# Altium schematic symbol library Z80 Card for Commodore C64.SCHLIB: 14 symbols
Pins are listed as number, name and electrical type; pins without a type are passive.

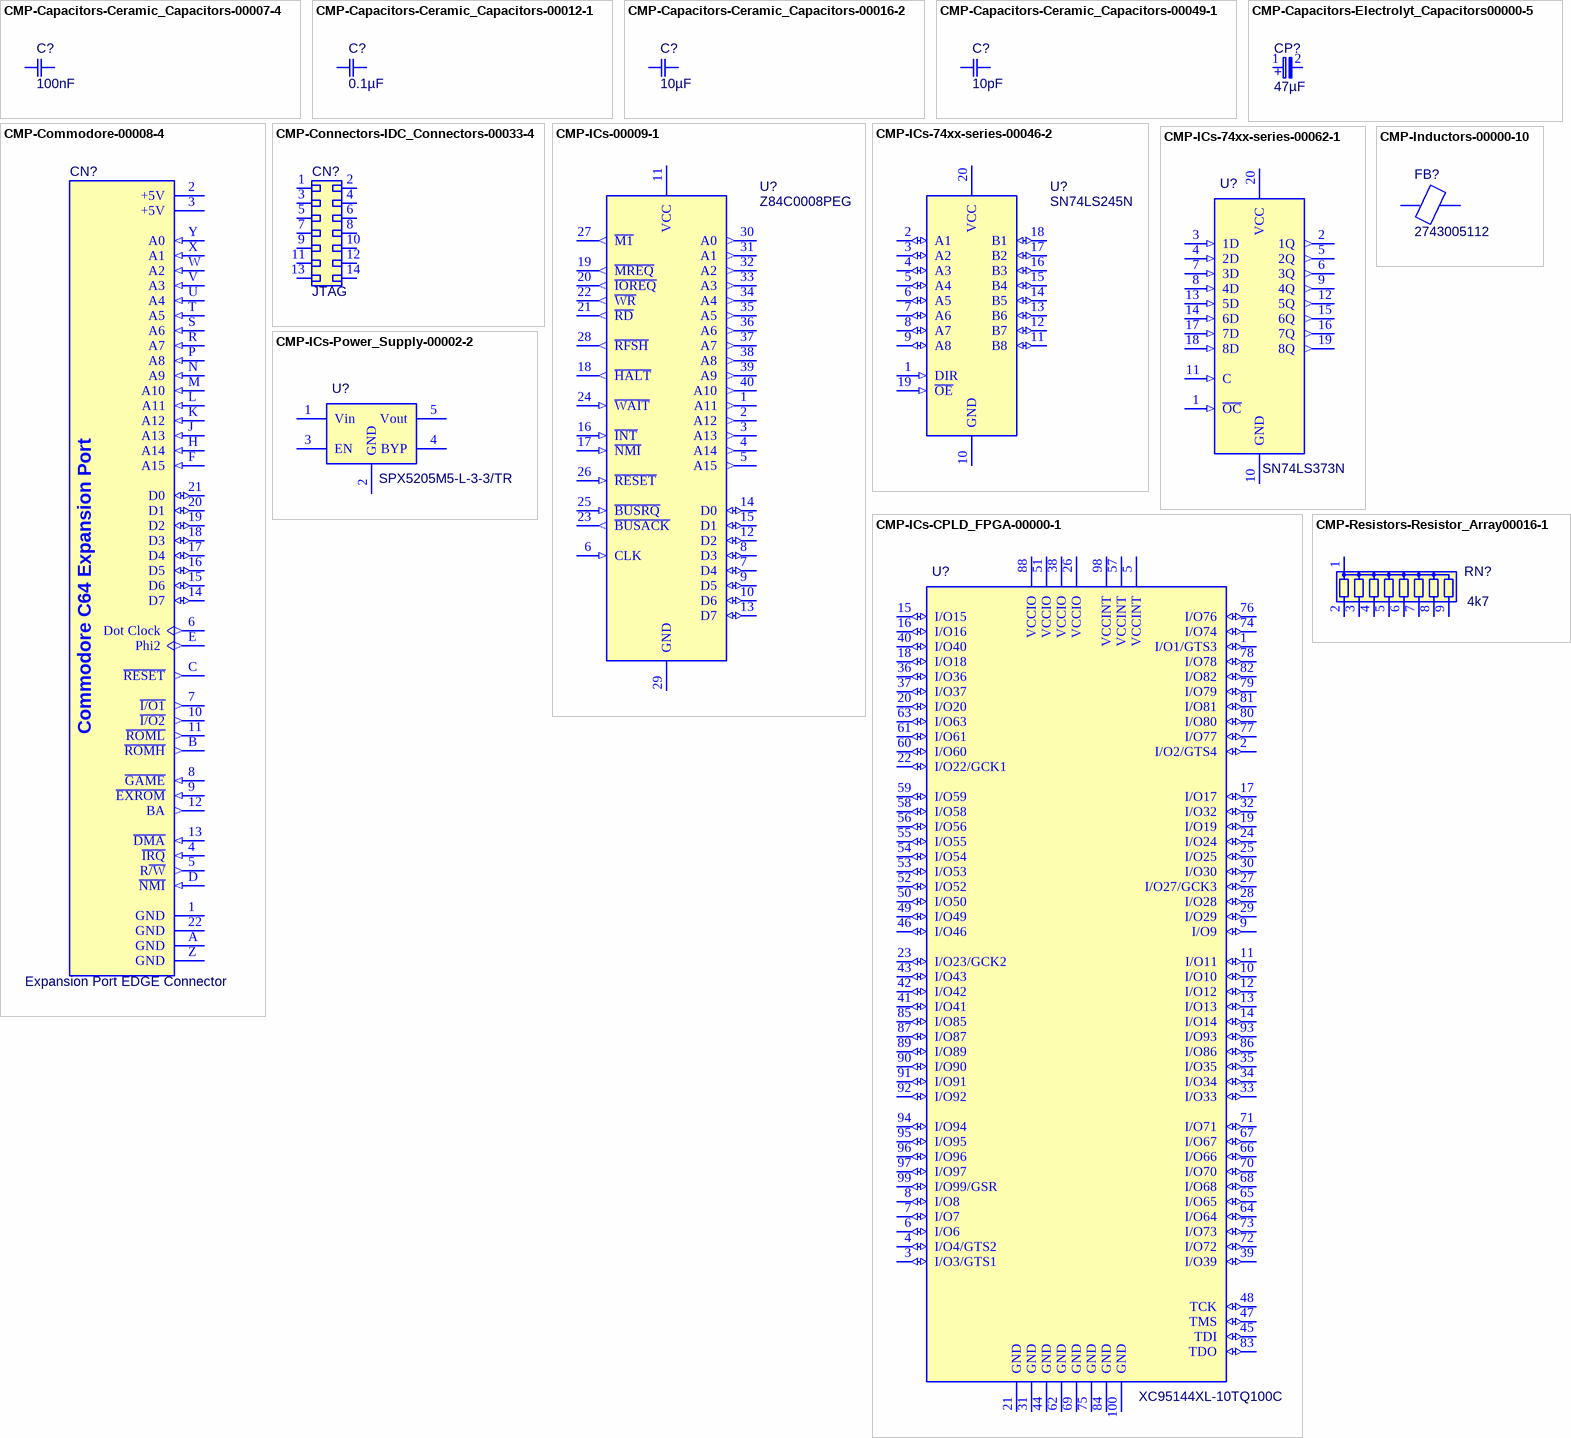
[diagram p0: symbols CMP-Capacitors-Ceramic_Capacitors-00007-4 to CMP-Resistors-Resistor_Array00016-1]

## CMP-Capacitors-Ceramic_Capacitors-00007-4
designator C?, comment 100nF
Ceramic Disc Capacitors 100nF -20%~+80% 50V Through Hole,P=2.54mm RoHS; ComponentLink1URL: https://lcsc.com/product-detail/Others_Dersonic-CC1H104ZA1PD3F5O3000_C353909.html; Component Type: Ceramic Capacitors
footprint CAP Disc 100nF P2.54mm D5.5mm T3mm
pins: 1, 2

## CMP-Capacitors-Ceramic_Capacitors-00012-1
designator C?, comment 0.1µF
KEMET         C0603C104J3RACTU             SMD Multilayer Ceramic Capacitor, 0603 [1608 Metric], 0.1 F, 25 V,  5%, X7R, C Series; Voltage Rating (DC): 25V; Capacitance: 100nF; Height: 0.8mm; Dielectric: X7R; Case Code (Metric): 1608; Width: 0.031inch; Depth: 0.8mm; Min Operating Temperature: -55°C; Number of Pins: 2; Mount: Surface Mount,PCB; REACH SVHC: No SVHC; Packaging: Tape and Reel; Case Code (Imperial): 0603; Contact Plating: Tin,Matte; Length: 1.6mm; Case/Package: 0603; Lead Pitch: 0.7mm; Package Quantity: 4000; Tolerance: 5%; Radiation Hardening: No; Dielectric Material: Ceramic; Voltage: 25V; Termination: SMD/SMT; Voltage Rating: 25V; Thickness: 0.034inch; Max Operating Temperature: 125°C; Manufacturer: KEMET; Manufacturer Part Number: C0603C104J3RACTU; Component Type: Ceramic Capacitors
footprint CAP 100nF SMD 0603 C0603C104J3RACTU (Chip Capacitor, 2-Leads, Body 1,60x0,80mm, IPC Medium Density)
pins: 1, 2

## CMP-Capacitors-Ceramic_Capacitors-00016-2
designator C?, comment 10µF
KEMET - C0805C106K8RACTU - CAP, 10µF, 10V, 10%, X7R, 0805; Dissipation Factor: 7.5%; Dielectric Material: Ceramic; Capacitance: 10uF; Max Operating Temperature: 125°C; Packaging: Tape and Reel; Case Code (Imperial): 0805; Depth: 1.25mm; Voltage: 10V; Voltage Rating (DC): 10V; Mount: Surface Mount,PCB; Min Operating Temperature: -55°C; Case Code (Metric): 2012; Case/Package: 0805; Thickness: 0.055inch; Termination: SMD/SMT; Voltage Rating: 10V; Height: 1.25mm; Dielectric: X7R; Width: 1.2mm; Package Quantity: 1; Length: 2mm; REACH SVHC: No SVHC; Tolerance: 10%; Manufacturer: KEMET; Manufacturer Part Number: C0805C106K8RACTU; Component Type: Ceramic Capacitors
footprint Kemet C0805CxxxK8RACTU Series H=1.4mm
pins: 1, 2

## CMP-Capacitors-Ceramic_Capacitors-00049-1
designator C?, comment 10pF
CAP CER 10PF 25V C0G/NP0 RADIAL; Manufacturer: KEMET; Manufacturer Part Number: C315C100J3G5TA; Component Type: Ceramic Capacitors
footprint CAP CER 10PF 25V C0G-NP0 RADIAL Kemet C315C100J3G5TA
pins: 1, 2

## CMP-Capacitors-Electrolyt_Capacitors00000-5
designator CP?, comment 47µF
Aluminum Electrolytic Capacitors - Leaded 47uF 105c; Manufacturer: Nichicon; Manufacturer Part Number: UMF1C470MDD1TP; Ripple Current: 115mA; Impedance: 1.3R; Life (Hours): 1000Hour; Voltage Rating: 16V; Tolerance: 20%; Height - Seated (Max): 0.236inch; Package Quantity: 2000; Lead Pitch: 0.098inch; Case/Package: Radial; Capacitance: 47uF; Max Operating Temperature: 105°C; Mount: Through Hole; Termination: Radial; Packaging: Tape and Reel; Min Operating Temperature: -55°C; Length: 5mm; Voltage Rating (DC): 16V; Component Type: Electrolyt Capacitors
footprint CAP 47µF16V D6mm H6.3mm P2.5mm
pins: 1, 2
text: +

## CMP-Commodore-00008-4
designator CN?, comment Expansion Port EDGE Connector  (no BOM)
Expansion Port EDGE Connector for Interface Cards; Component Type: Commodore
footprint C64 Expansion Port EDGE Connector
pins: 1 GND (power), 2 +5V (power), 3 +5V (power), 4 ~{IRQ} (in), 5 R~{/W} (out), 6 Dot Clock (out), 7 ~{I/O1} (out), 8 ~{GAME} (in), 9 ~{EXROM} (in), 10 ~{I/O2} (out), 11 ~{ROML} (out), 12 BA (out), 13 ~{DMA} (in), 14 D7 (io), 15 D6 (io), 16 D5 (io), 17 D4 (io), 18 D3 (io), 19 D2 (io), 20 D1 (io), 21 D0 (io), 22 GND (power), A GND (power), B ~{ROMH} (out), C ~{RESET} (out), D ~{NMI} (in), E Phi2 (out), F A15 (in), H A14 (in), J A13 (in), K A12 (in), L A11 (in), M A10 (in), N A9 (in), P A8 (in), R A7 (in), S A6 (in), T A5 (in), U A4 (in), V A3 (in), W A2 (in), X A1 (in), Y A0 (in), Z GND (power)
text: Commodore C64 Expansion Port

## CMP-Connectors-IDC_Connectors-00033-4
designator CN?, comment JTAG
Grid pitch: 1.27 mm BL2/15-0400GTT-014 RU MPE Garry Conten; Manufacturer: MPE-Garry; Manufacturer Part Number: 369-1-014-0-NTX-KT0; Pitch: 1.27mm; Contact Material: Bronze,Tin; Height: 3.95mm; Length: 19.7mm; Width: 5mm; Insulation Material: Thermoplastic; Component Type: IDC Connectors
footprint MPE 369-1-014 Buchsenleisten MicroMatch 1,27 mm,2X10,gerade
pins: 1, 2, 3, 4, 5, 6, 7, 8, 9, 10, 11, 12, 13, 14

## CMP-ICs-00009-1
designator U?, comment Z84C0008PEG
IC MPU Z80 8MHZ 40DIP; Manufacturer: Ixys Zilog; Memory Size: 64KB; Core Architecture: Z8; Data Bus Width: 8b; Memory Type: ROMless; Max Supply Voltage: 5V; Number of I/Os: 24; Min Supply Voltage: 4.5V; Max Operating Temperature: 100°C; Mount: Through Hole; REACH SVHC: Unknown; Lead Free: Lead Free; Case/Package: DIP; Max Frequency: 8MHz; Frequency: 8MHz; Length: 62.74mm; Height: 4.19mm; Radiation Hardening: No; Packaging: Rail/Tube; Number of Pins: 40; Voltage: 5V; Min Operating Temperature: -40°C; Width: 14.22mm; Package Quantity: 10; Manufacturer Part Number: Z84C0008PEG; Component Type: ICs
footprint Zilog Z80 CPU with Socket
footprint Zilog Z80 CPU
pins: 1 A11 (out), 2 A12 (out), 3 A13 (out), 4 A14 (out), 5 A15 (out), 6 CLK (in), 7 D4 (io), 8 D3 (io), 9 D5 (io), 10 D6 (io), 11 VCC (power), 12 D2 (io), 13 D7 (io), 14 D0 (io), 15 D1 (io), 16 ~{INT} (in), 17 ~{NMI} (in), 18 ~{HALT} (out), 19 ~{MREQ} (out), 20 ~{IOREQ} (out), 21 ~{RD} (out), 22 ~{WR} (out), 23 ~{BUSACK} (out), 24 ~{WAIT} (in), 25 ~{BUSRQ} (in), 26 ~{RESET} (in), 27 ~{M1} (out), 28 ~{RFSH} (out), 29 GND (power), 30 A0 (out), 31 A1 (out), 32 A2 (out), 33 A3 (out), 34 A4 (out), 35 A5 (out), 36 A6 (out), 37 A7 (out), 38 A8 (out), 39 A9 (out), 40 A10 (out)

## CMP-ICs-74xx-series-00046-2
designator U?, comment SN74LS245N
IC TXRX NON-INVERT 5.25V 20DIP; Manufacturer: Texas Instruments; Turn-On Delay Time: 12ns; Logic Function: Transceiver,Inverting; Number of Outputs: 8; Min Supply Voltage: 4.75V; Operating Supply Voltage: 5V; Quiescent Current: 62mA; Polarity: Non-Inverting; Low Level Output Current: 24mA; Number of Elements: 1; High Level Output Current: -15mA; Direction: Bidirectional; Mount: Through Hole; Number of Bits: 8; Number of Circuits: 8; Propagation Delay: 12ns; Number of Transceivers: 8; Max Operating Temperature: 70°C; Number of Bits per Element: 8; Contact Plating: Gold; Length: 24.33mm; Weight: 0.042297oz; Width: 6.35mm; Lead Free: Lead Free; Number of Pins: 20; Packaging: Rail/Tube; Max Supply Voltage: 5.25V; Radiation Hardening: No; Height: 4.57mm; Min Operating Temperature: 0°C; Termination: Through Hole; REACH SVHC: No SVHC; Number of Channels: 8; Case/Package: PDIP; Package Quantity: 20; Manufacturer Part Number: SN74LS245N; Component Type: 74xx-series
footprint SN74LS245N with Socket
footprint SN74LS245N
pins: 1 DIR (in), 2 A1 (io), 3 A2 (io), 4 A3 (io), 5 A4 (io), 6 A5 (io), 7 A6 (io), 8 A7 (io), 9 A8 (io), 10 GND, 11 B8 (io), 12 B7 (io), 13 B6 (io), 14 B5 (io), 15 B4 (io), 16 B3 (io), 17 B2 (io), 18 B1 (io), 19 ~{OE} (in), 20 VCC

## CMP-ICs-74xx-series-00062-1
designator U?, comment SN74LS373N
Latch Transparent 3-ST 8-CH D-Type 20-Pin PDIP Tube; Manufacturer: Texas Instruments; Max Supply Voltage: 5.25V; Number of Circuits: 8; Logic Function: D-Type,Latch,Flip-Flop; Low Level Output Current: 24mA; Number of Output Lines: 1; Propagation Delay: 18ns; Number of Input Lines: 3; Operating Supply Current: 40mA; Min Supply Voltage: 4.75V; Polarity: Non-Inverting; Operating Supply Voltage: 5V; Turn-On Delay Time: 12ns; High Level Output Current: -2.6mA; Weight: 0.042297oz; Number of Bits: 8; Max Operating Temperature: 70°C; Package Quantity: 20; Number of Outputs: 8; Case/Package: PDIP; Quiescent Current: 24mA; Min Operating Temperature: 0°C; Width: 6.35mm; Contact Plating: Gold; Lead Free: Lead Free; Number of Elements: 1; Mount: Through Hole; Number of Channels: 8; Height: 4.57mm; REACH SVHC: No SVHC; Number of Pins: 20; Packaging: Rail/Tube; Output Current: 24mA; Radiation Hardening: No; Independent Circuits: 1; Length: 24.33mm; Manufacturer Part Number: SN74LS373N; Component Type: 74xx-series
footprint SN74LS373N with Socket (OCTAL D-TYPE TRANSPARENT LATCHES AND EDGE-TRIGGERED FLIP-FLOPS)
footprint SN74LS373N (OCTAL D-TYPE TRANSPARENT LATCHES AND EDGE-TRIGGERED FLIP-FLOPS)
pins: 1 ~{OC} (in), 2 1Q (out), 3 1D (in), 4 2D (in), 5 2Q (out), 6 3Q (out), 7 3D (in), 8 4D (in), 9 4Q (out), 10 GND (power), 11 C (in), 12 5Q (out), 13 5D (in), 14 6D (in), 15 6Q (out), 16 7Q (out), 17 7D (in), 18 8D (in), 19 8Q (out), 20 VCC (power)

## CMP-ICs-CPLD_FPGA-00000-1
designator U?, comment XC95144XL-10TQ100C
IC CPLD 144MC 7.5NS 100TQFP; Manufacturer: Xilinx; Manufacturer Part Number: XC95144XL-7TQ100C; Speed Grade: 7; Operating Supply Voltage: 3.3V; Max Supply Voltage: 3.6V; Number of Gates: 3200; Min Supply Voltage: 3V; Number of I/Os: 81; Number of Macrocells: 144; Number of Logic Blocks (LABs): 8; Max Frequency: 125MHz; Memory Type: FLASH; Turn-On Delay Time: 7.5ns; Mount: Surface Mount; Number of Pins: 100; Propagation Delay: 7.5ns; Package Quantity: 90; Case/Package: LQFP; Contact Plating: Tin,Lead; Packaging: Tray; Lead Free: Contains Lead; Min Operating Temperature: 0°C; Number of Logic Elements/Cells: 8; Max Operating Temperature: 70°C; Component Type: CPLD-FPGA
footprint TQFP-100 P0.5mm XC95144XL-7TQ100C (TSQFP, 100-Leads, Body 14,00x14,00mm, Pitch 0,50mm, IPC Medium Density)
pins: 1 I/O1/GTS3 (io), 2 I/O2/GTS4 (io), 3 I/O3/GTS1 (io), 4 I/O4/GTS2 (io), 5 VCCINT (power), 6 I/O6 (io), 7 I/O7 (io), 8 I/O8 (io), 9 I/O9 (io), 10 I/O10 (io), 11 I/O11 (io), 12 I/O12 (io), 13 I/O13 (io), 14 I/O14 (io), 15 I/O15 (io), 16 I/O16 (io), 17 I/O17 (io), 18 I/O18 (io), 19 I/O19 (io), 20 I/O20 (io), 21 GND, 22 I/O22/GCK1 (io), 23 I/O23/GCK2 (io), 24 I/O24 (io), 25 I/O25 (io), 26 VCCIO (power), 27 I/O27/GCK3 (io), 28 I/O28 (io), 29 I/O29 (io), 30 I/O30 (io), 31 GND, 32 I/O32 (io), 33 I/O33 (io), 34 I/O34 (io), 35 I/O35 (io), 36 I/O36 (io), 37 I/O37 (io), 38 VCCIO (power), 39 I/O39 (io), 40 I/O40 (io), 41 I/O41 (io), 42 I/O42 (io), 43 I/O43 (io), 44 GND, 45 TDI (io), 46 I/O46 (io), 47 TMS (io), 48 TCK (io), 49 I/O49 (io), 50 I/O50 (io), 51 VCCIO (power), 52 I/O52 (io), 53 I/O53 (io), 54 I/O54 (io), 55 I/O55 (io), 56 I/O56 (io), 57 VCCINT (power), 58 I/O58 (io), 59 I/O59 (io), 60 I/O60 (io), 61 I/O61 (io), 62 GND, 63 I/O63 (io), 64 I/O64 (io), 65 I/O65 (io), 66 I/O66 (io), 67 I/O67 (io), 68 I/O68 (io), 69 GND, 70 I/O70 (io), 71 I/O71 (io), 72 I/O72 (io), 73 I/O73 (io), 74 I/O74 (io), 75 GND, 76 I/O76 (io), 77 I/O77 (io), 78 I/O78 (io), 79 I/O79 (io), 80 I/O80 (io), 81 I/O81 (io), 82 I/O82 (io), 83 TDO (io), 84 GND, 85 I/O85 (io), 86 I/O86 (io), 87 I/O87 (io), 88 VCCIO (power), 89 I/O89 (io), 90 I/O90 (io), 91 I/O91 (io), 92 I/O92 (io), 93 I/O93 (io), 94 I/O94 (io), 95 I/O95 (io), 96 I/O96 (io), 97 I/O97 (io), 98 VCCINT (power), 99 I/O99/GSR (io), 100 GND

## CMP-ICs-Power_Supply-00002-2
designator U?, comment SPX5205M5-L-3-3/TR
LDO Regulator Pos 3.3V 0.15A 5-Pin SOT-23 T/R; Manufacturer: Exar; Min Input Voltage: 2.5V; Number of Outputs: 1; Dropout Voltage: 210mV; Accuracy: 1%; Polarity: Positive; Max Input Voltage: 16V; Output Type: Fixed; Output Current: 150mA; Quiescent Current: 1uA; Packaging: Tape and Reel; Lead Free: Lead Free; Case/Package: SOT-23; Height: 1.15mm; Number of Regulators: 1; Max Operating Temperature: 125°C; Min Operating Temperature: -40°C; Output Voltage: 3.3V; Width: 1.6mm; Radiation Hardening: No; Mount: Surface Mount; Length: 2.9mm; Max Output Current: 150mA; Min Output Voltage: 3.3V; Number of Pins: 5; Manufacturer Part Number: SPX5205M5-L-3-3/TR; Component Type: Power Supplies
footprint SOT-23-5
pins: 1 Vin (power), 2 GND (power), 3 EN, 4 BYP, 5 Vout (power)

## CMP-Inductors-00000-10
designator FB?, comment 2743005112
Ferrite Beads Axial 91Ohm 100MHz T/R; Manufacturer: Fair-Rite; Impedance: 91R; Shielding: Unshielded; Min Operating Temperature: -55°C; Test Frequency: 100MHz; Termination: Axial; Max Operating Temperature: 125°C; Package Quantity: 4500; Diameter: 3.5mm; Packaging: Tape and Reel; Case/Package: Axial; Length: 6mm; Manufacturer Part Number: 2743005112; Component Type: Displays
footprint Ferrite Bead Fair Rite 2743005112 (FERRITE BEAD AXIAL 1LN)
footprint Ferrite Bead Fair Rite 2743005112 axial 10,16mm (FERRITE BEAD AXIAL 1LN)
pins: 1, 2

## CMP-Resistors-Resistor_Array00016-1
designator RN?, comment 4k7
Resistor Networks & Arrays 9pin 4.7Kohms 2% Bussed; Manufacturer: Vishay Dale; Manufacturer Part Number: CSC09A014K70GPA; Voltage Rating (DC): 100V; Number of Elements: 10; Resistance: 4.7kR; Power Rating: 1.12W; Number of Resistors: 8; Power Per Element: 200mW; Number of Contacts: 9; Temperature Coefficient: 100ppm/°C; Max Operating Temperature: 125°C; Lead Pitch: 2.54mm; Contact Plating: Tin,Lead; Technology: THICK FILM; Width: 0.098inch; Circuit Type: Bussed; Thickness: 2.49mm; Tolerance: 2%; Length: 22.61mm; Number of Pins: 9; Series: CSC; Mount: Through Hole; Resistance Tolerance: 2%; Working Voltage: 100V; Packaging: Bulk; Depth: 2.49mm; REACH SVHC: Unknown; Radiation Hardening: No; RoHS Compliant: No; Termination: Pin; Military Standard: Not; Terminal Pitch: 2.54mm; Number of Terminals/Pins: 9; Min Operating Temperature: -55°C; Voltage Rating: 100V; Package Quantity: 1000; Height: 0.195inch; Lead Free: Contains Lead; Case/Package: SIP; Number of Terminals: 10; Component Type: Resistor Arrays
footprint 4k7 x8 Resistor Array SIL Royal 9A472G
pins: 1, 2, 3, 4, 5, 6, 7, 8, 9